# Altium footprint library Connector_PinSocket_1.00mm.PcbLib: 156 footprints (part 5 of 10)
Each footprint in its own frame and in the unit in brackets; x right, y up, seen from the top. Pads: shape width x height; smd on the part's side, far side on the other; paste and mask are expansions set on the pad; w line width, h text height; cw(c..) or ccw(c..) is an arc to the next point about the centre after c.
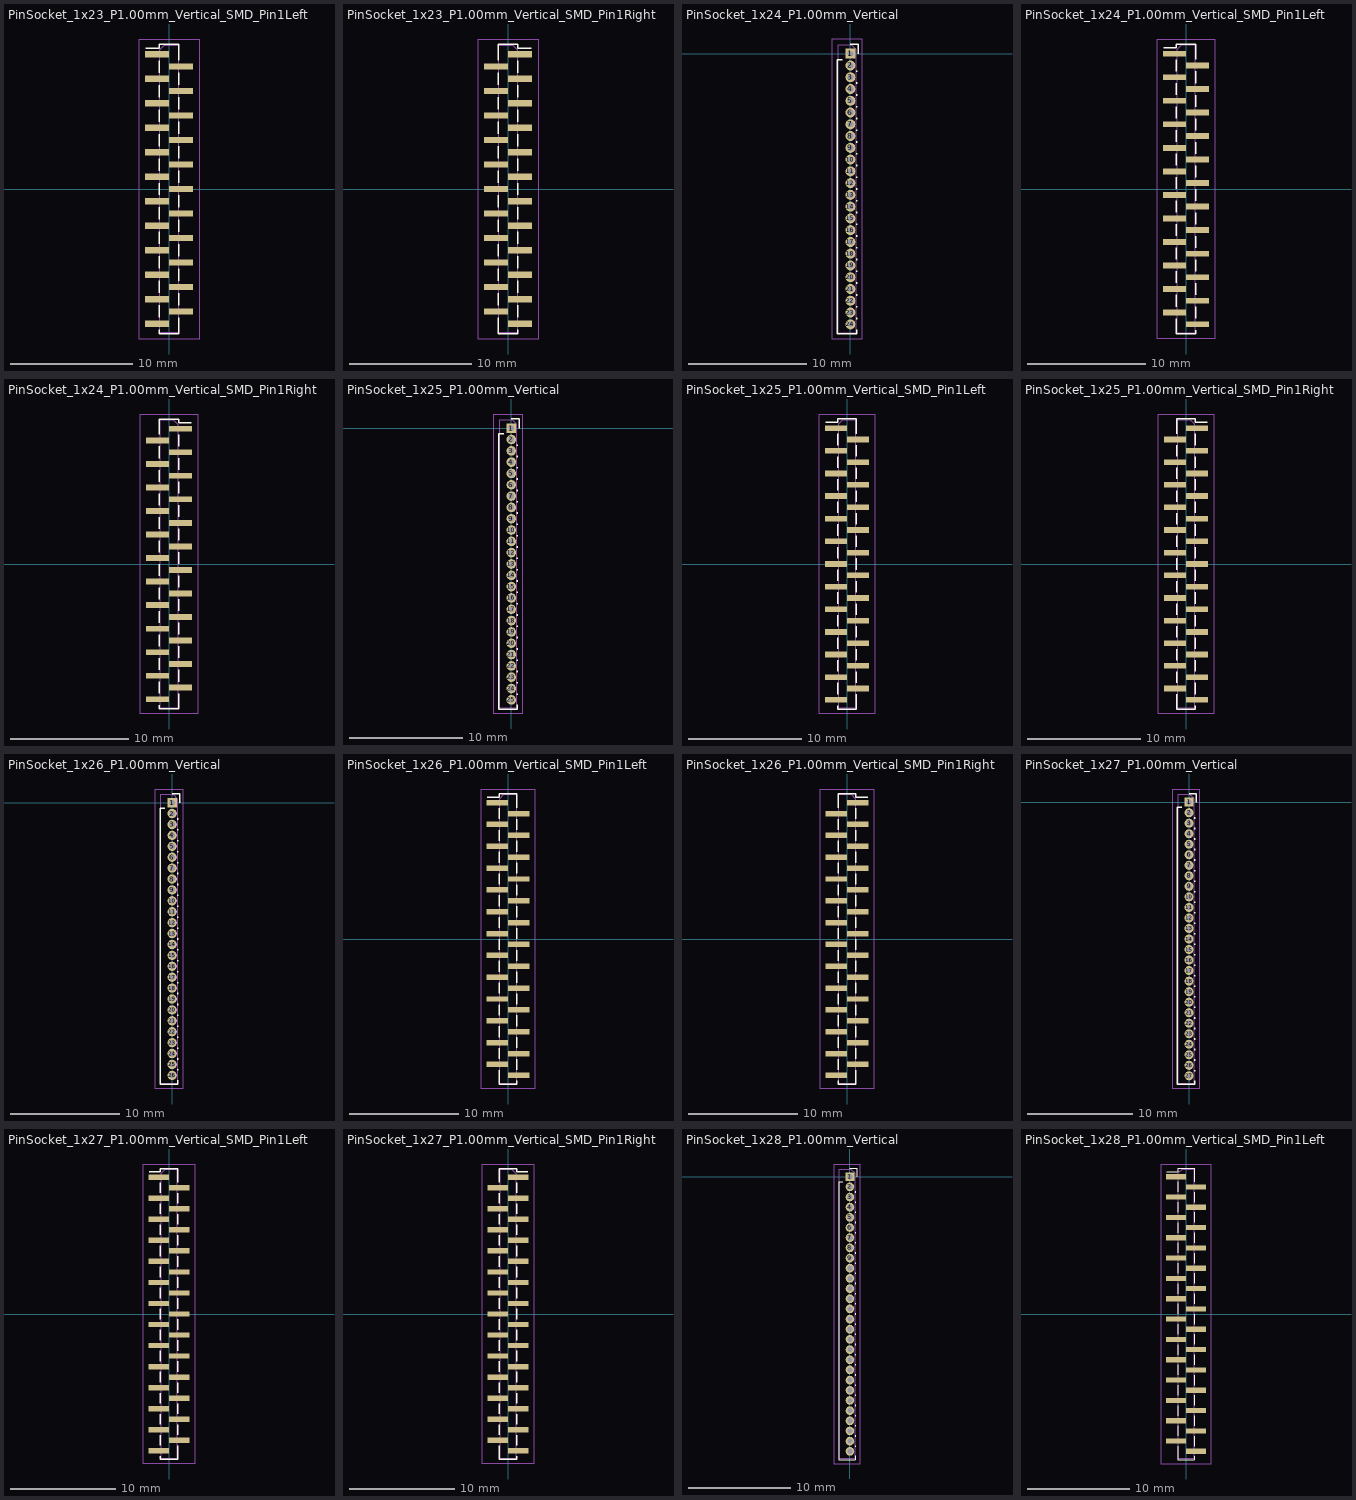
[diagram p4: the footprints below, top view; thin cyan lines are the x and y axes]

## PinSocket_1x23_P1.00mm_Vertical_SMD_Pin1Left [mm]
pads (23):
  rect 1.95x0.5 smd: 1(-0.975,11) 2(0.975,10) 3(-0.975,9) 4(0.975,8) 5(-0.975,7) 6(0.975,6) 7(-0.975,5) 8(0.975,4) 9(-0.975,3) 10(0.975,2) 11(-0.975,1) 12(0.975,0) 13(-0.975,-1) 14(0.975,-2) 15(-0.975,-3) 16(0.975,-4) 17(-0.975,-5) 18(0.975,-6) 19(-0.975,-7) 20(0.975,-8) 21(-0.975,-9) 22(0.975,-10) 23(-0.975,-11)
F.SilkS:
  lines w0.12: -1.89,11.51 -0.81,11.51 -0.81,11.81 0.81,11.81 0.81,10.51 ; -0.81,-11.51 -0.81,-11.81 0.81,-11.81 0.81,-10.51 ; -0.81,-10.49 -0.81,-9.51 ; -0.81,-8.49 -0.81,-7.51 ; -0.81,-6.49 -0.81,-5.51 ; -0.81,-4.49 -0.81,-3.51 ; -0.81,-2.49 -0.81,-1.51 ; -0.81,-0.49 -0.81,0.49 ; -0.81,1.51 -0.81,2.49 ; -0.81,3.51 -0.81,4.49 ; -0.81,5.51 -0.81,6.49 ; -0.81,7.51 -0.81,8.49 ; -0.81,9.51 -0.81,10.49 ; 0.81,-9.49 0.81,-8.51 ; 0.81,-7.49 0.81,-6.51 ; 0.81,-5.49 0.81,-4.51 ; 0.81,-3.49 0.81,-2.51 ; 0.81,-1.49 0.81,-0.51 ; 0.81,0.51 0.81,1.49 ; 0.81,2.51 0.81,3.49 ; 0.81,4.51 0.81,5.49 ; 0.81,6.51 0.81,7.49 ; 0.81,8.51 0.81,9.49
F.CrtYd:
  lines w0.05: -2.45,-12.25 2.45,-12.25 2.45,12.25 -2.45,12.25 -2.45,-12.25
F.Fab:
  lines w0.1: -0.75,-11.15 -1.45,-11.15 -1.45,-10.85 -0.75,-10.85 ; -0.75,-9.15 -1.45,-9.15 -1.45,-8.85 -0.75,-8.85 ; -0.75,-7.15 -1.45,-7.15 -1.45,-6.85 -0.75,-6.85 ; -0.75,-5.15 -1.45,-5.15 -1.45,-4.85 -0.75,-4.85 ; -0.75,-3.15 -1.45,-3.15 -1.45,-2.85 -0.75,-2.85 ; -0.75,-1.15 -1.45,-1.15 -1.45,-0.85 -0.75,-0.85 ; -0.75,0.85 -1.45,0.85 -1.45,1.15 -0.75,1.15 ; -0.75,2.85 -1.45,2.85 -1.45,3.15 -0.75,3.15 ; -0.75,4.85 -1.45,4.85 -1.45,5.15 -0.75,5.15 ; -0.75,6.85 -1.45,6.85 -1.45,7.15 -0.75,7.15 ; -0.75,8.85 -1.45,8.85 -1.45,9.15 -0.75,9.15 ; -0.75,10.85 -1.45,10.85 -1.45,11.15 -0.75,11.15 ; 0.75,-10.15 1.45,-10.15 1.45,-9.85 0.75,-9.85 ; 0.75,-8.15 1.45,-8.15 1.45,-7.85 0.75,-7.85 ; 0.75,-6.15 1.45,-6.15 1.45,-5.85 0.75,-5.85 ; 0.75,-4.15 1.45,-4.15 1.45,-3.85 0.75,-3.85 ; 0.75,-2.15 1.45,-2.15 1.45,-1.85 0.75,-1.85 ; 0.75,-0.15 1.45,-0.15 1.45,0.15 0.75,0.15 ; 0.75,1.85 1.45,1.85 1.45,2.15 0.75,2.15 ; 0.75,3.85 1.45,3.85 1.45,4.15 0.75,4.15 ; 0.75,5.85 1.45,5.85 1.45,6.15 0.75,6.15 ; 0.75,7.85 1.45,7.85 1.45,8.15 0.75,8.15 ; 0.75,9.85 1.45,9.85 1.45,10.15 0.75,10.15 ; -0.75,-11.75 0.75,-11.75 0.75,11.75 -0.375,11.75 -0.75,11.375 -0.75,-11.75
  text "'.Designator'" at 0.761,-3.647 h0.9

## PinSocket_1x23_P1.00mm_Vertical_SMD_Pin1Right [mm]
pads (23):
  rect 1.95x0.5 smd: 1(0.975,11) 2(-0.975,10) 3(0.975,9) 4(-0.975,8) 5(0.975,7) 6(-0.975,6) 7(0.975,5) 8(-0.975,4) 9(0.975,3) 10(-0.975,2) 11(0.975,1) 12(-0.975,0) 13(0.975,-1) 14(-0.975,-2) 15(0.975,-3) 16(-0.975,-4) 17(0.975,-5) 18(-0.975,-6) 19(0.975,-7) 20(-0.975,-8) 21(0.975,-9) 22(-0.975,-10) 23(0.975,-11)
F.SilkS:
  lines w0.12: -0.81,-10.51 -0.81,-11.81 0.81,-11.81 0.81,-11.51 ; -0.81,-9.49 -0.81,-8.51 ; -0.81,-7.49 -0.81,-6.51 ; -0.81,-5.49 -0.81,-4.51 ; -0.81,-3.49 -0.81,-2.51 ; -0.81,-1.49 -0.81,-0.51 ; -0.81,0.51 -0.81,1.49 ; -0.81,2.51 -0.81,3.49 ; -0.81,4.51 -0.81,5.49 ; -0.81,6.51 -0.81,7.49 ; -0.81,8.51 -0.81,9.49 ; -0.81,10.51 -0.81,11.81 0.81,11.81 0.81,11.51 1.89,11.51 ; 0.81,-10.49 0.81,-9.51 ; 0.81,-8.49 0.81,-7.51 ; 0.81,-6.49 0.81,-5.51 ; 0.81,-4.49 0.81,-3.51 ; 0.81,-2.49 0.81,-1.51 ; 0.81,-0.49 0.81,0.49 ; 0.81,1.51 0.81,2.49 ; 0.81,3.51 0.81,4.49 ; 0.81,5.51 0.81,6.49 ; 0.81,7.51 0.81,8.49 ; 0.81,9.51 0.81,10.49
F.CrtYd:
  lines w0.05: -2.45,-12.25 -2.45,12.25 2.45,12.25 2.45,-12.25 -2.45,-12.25
F.Fab:
  lines w0.1: -0.75,-10.15 -1.45,-10.15 -1.45,-9.85 -0.75,-9.85 ; -0.75,-8.15 -1.45,-8.15 -1.45,-7.85 -0.75,-7.85 ; -0.75,-6.15 -1.45,-6.15 -1.45,-5.85 -0.75,-5.85 ; -0.75,-4.15 -1.45,-4.15 -1.45,-3.85 -0.75,-3.85 ; -0.75,-2.15 -1.45,-2.15 -1.45,-1.85 -0.75,-1.85 ; -0.75,-0.15 -1.45,-0.15 -1.45,0.15 -0.75,0.15 ; -0.75,1.85 -1.45,1.85 -1.45,2.15 -0.75,2.15 ; -0.75,3.85 -1.45,3.85 -1.45,4.15 -0.75,4.15 ; -0.75,5.85 -1.45,5.85 -1.45,6.15 -0.75,6.15 ; -0.75,7.85 -1.45,7.85 -1.45,8.15 -0.75,8.15 ; -0.75,9.85 -1.45,9.85 -1.45,10.15 -0.75,10.15 ; 0.75,-11.15 1.45,-11.15 1.45,-10.85 0.75,-10.85 ; 0.75,-9.15 1.45,-9.15 1.45,-8.85 0.75,-8.85 ; 0.75,-7.15 1.45,-7.15 1.45,-6.85 0.75,-6.85 ; 0.75,-5.15 1.45,-5.15 1.45,-4.85 0.75,-4.85 ; 0.75,-3.15 1.45,-3.15 1.45,-2.85 0.75,-2.85 ; 0.75,-1.15 1.45,-1.15 1.45,-0.85 0.75,-0.85 ; 0.75,0.85 1.45,0.85 1.45,1.15 0.75,1.15 ; 0.75,2.85 1.45,2.85 1.45,3.15 0.75,3.15 ; 0.75,4.85 1.45,4.85 1.45,5.15 0.75,5.15 ; 0.75,6.85 1.45,6.85 1.45,7.15 0.75,7.15 ; 0.75,8.85 1.45,8.85 1.45,9.15 0.75,9.15 ; 0.75,10.85 1.45,10.85 1.45,11.15 0.75,11.15 ; -0.75,-11.75 -0.75,11.75 0.375,11.75 0.75,11.375 0.75,-11.75 -0.75,-11.75
  text "'.Designator'" at 0.761,-3.647 h0.9

## PinSocket_1x24_P1.00mm_Vertical [mm]
pads (24):
  rect 0.85x0.85 hole 0.5: 1(0,0)
  rrect100% 0.85x0.85 hole 0.5: 2(0,-1) 3(0,-2) 4(0,-3) 5(0,-4) 6(0,-5) 7(0,-6) 8(0,-7) 9(0,-8) 10(0,-9) 11(0,-10) 12(0,-11) 13(0,-12) 14(0,-13) 15(0,-14) 16(0,-15) 17(0,-16) 18(0,-17) 19(0,-18) 20(0,-19) 21(0,-20) 22(0,-21) 23(0,-22) 24(0,-23)
F.SilkS:
  lines w0.12: -0.685,-0.5 -1.1,-0.5 -1.1,-23.81 0.52,-23.81 0.52,-23.446 ; 0,0.81 0.685,0.81 0.685,0 ; 0.52,-22.554 0.52,-22.446 ; 0.52,-21.554 0.52,-21.446 ; 0.52,-20.554 0.52,-20.446 ; 0.52,-19.554 0.52,-19.446 ; 0.52,-18.554 0.52,-18.446 ; 0.52,-17.554 0.52,-17.446 ; 0.52,-16.554 0.52,-16.446 ; 0.52,-15.554 0.52,-15.446 ; 0.52,-14.554 0.52,-14.446 ; 0.52,-13.554 0.52,-13.446 ; 0.52,-12.554 0.52,-12.446 ; 0.52,-11.554 0.52,-11.446 ; 0.52,-10.554 0.52,-10.446 ; 0.52,-9.554 0.52,-9.446 ; 0.52,-8.554 0.52,-8.446 ; 0.52,-7.554 0.52,-7.446 ; 0.52,-6.554 0.52,-6.446 ; 0.52,-5.554 0.52,-5.446 ; 0.52,-4.554 0.52,-4.446 ; 0.52,-3.554 0.52,-3.446 ; 0.52,-2.554 0.52,-2.446 ; 0.52,-1.554 0.52,-1.446
F.CrtYd:
  lines w0.05: -1.54,-24.25 0.96,-24.25 0.96,1.25 -1.54,1.25 -1.54,-24.25
F.Fab:
  lines w0.1: -1.04,-23.75 -1.04,0.75 0.085,0.75 0.46,0.375 0.46,-23.75 -1.04,-23.75
  text "'.Designator'" at 0.471,-15.147 h0.9

## PinSocket_1x24_P1.00mm_Vertical_SMD_Pin1Left [mm]
pads (24):
  rect 1.95x0.5 smd: 1(-0.975,11.5) 2(0.975,10.5) 3(-0.975,9.5) 4(0.975,8.5) 5(-0.975,7.5) 6(0.975,6.5) 7(-0.975,5.5) 8(0.975,4.5) 9(-0.975,3.5) 10(0.975,2.5) 11(-0.975,1.5) 12(0.975,0.5) 13(-0.975,-0.5) 14(0.975,-1.5) 15(-0.975,-2.5) 16(0.975,-3.5) 17(-0.975,-4.5) 18(0.975,-5.5) 19(-0.975,-6.5) 20(0.975,-7.5) 21(-0.975,-8.5) 22(0.975,-9.5) 23(-0.975,-10.5) 24(0.975,-11.5)
F.SilkS:
  lines w0.12: -1.89,12.01 -0.81,12.01 -0.81,12.31 0.81,12.31 0.81,11.01 ; -0.81,-11.01 -0.81,-12.31 0.81,-12.31 0.81,-12.01 ; -0.81,-9.99 -0.81,-9.01 ; -0.81,-7.99 -0.81,-7.01 ; -0.81,-5.99 -0.81,-5.01 ; -0.81,-3.99 -0.81,-3.01 ; -0.81,-1.99 -0.81,-1.01 ; -0.81,0.01 -0.81,0.99 ; -0.81,2.01 -0.81,2.99 ; -0.81,4.01 -0.81,4.99 ; -0.81,6.01 -0.81,6.99 ; -0.81,8.01 -0.81,8.99 ; -0.81,10.01 -0.81,10.99 ; 0.81,-10.99 0.81,-10.01 ; 0.81,-8.99 0.81,-8.01 ; 0.81,-6.99 0.81,-6.01 ; 0.81,-4.99 0.81,-4.01 ; 0.81,-2.99 0.81,-2.01 ; 0.81,-0.99 0.81,-0.01 ; 0.81,1.01 0.81,1.99 ; 0.81,3.01 0.81,3.99 ; 0.81,5.01 0.81,5.99 ; 0.81,7.01 0.81,7.99 ; 0.81,9.01 0.81,9.99
F.CrtYd:
  lines w0.05: -2.45,-12.75 2.45,-12.75 2.45,12.75 -2.45,12.75 -2.45,-12.75
F.Fab:
  lines w0.1: -0.75,-10.65 -1.45,-10.65 -1.45,-10.35 -0.75,-10.35 ; -0.75,-8.65 -1.45,-8.65 -1.45,-8.35 -0.75,-8.35 ; -0.75,-6.65 -1.45,-6.65 -1.45,-6.35 -0.75,-6.35 ; -0.75,-4.65 -1.45,-4.65 -1.45,-4.35 -0.75,-4.35 ; -0.75,-2.65 -1.45,-2.65 -1.45,-2.35 -0.75,-2.35 ; -0.75,-0.65 -1.45,-0.65 -1.45,-0.35 -0.75,-0.35 ; -0.75,1.35 -1.45,1.35 -1.45,1.65 -0.75,1.65 ; -0.75,3.35 -1.45,3.35 -1.45,3.65 -0.75,3.65 ; -0.75,5.35 -1.45,5.35 -1.45,5.65 -0.75,5.65 ; -0.75,7.35 -1.45,7.35 -1.45,7.65 -0.75,7.65 ; -0.75,9.35 -1.45,9.35 -1.45,9.65 -0.75,9.65 ; -0.75,11.35 -1.45,11.35 -1.45,11.65 -0.75,11.65 ; 0.75,-11.65 1.45,-11.65 1.45,-11.35 0.75,-11.35 ; 0.75,-9.65 1.45,-9.65 1.45,-9.35 0.75,-9.35 ; 0.75,-7.65 1.45,-7.65 1.45,-7.35 0.75,-7.35 ; 0.75,-5.65 1.45,-5.65 1.45,-5.35 0.75,-5.35 ; 0.75,-3.65 1.45,-3.65 1.45,-3.35 0.75,-3.35 ; 0.75,-1.65 1.45,-1.65 1.45,-1.35 0.75,-1.35 ; 0.75,0.35 1.45,0.35 1.45,0.65 0.75,0.65 ; 0.75,2.35 1.45,2.35 1.45,2.65 0.75,2.65 ; 0.75,4.35 1.45,4.35 1.45,4.65 0.75,4.65 ; 0.75,6.35 1.45,6.35 1.45,6.65 0.75,6.65 ; 0.75,8.35 1.45,8.35 1.45,8.65 0.75,8.65 ; 0.75,10.35 1.45,10.35 1.45,10.65 0.75,10.65 ; -0.75,-12.25 -0.75,11.875 -0.375,12.25 0.75,12.25 0.75,-12.25 -0.75,-12.25
  text "'.Designator'" at 0.761,-3.647 h0.9

## PinSocket_1x24_P1.00mm_Vertical_SMD_Pin1Right [mm]
pads (24):
  rect 1.95x0.5 smd: 1(0.975,11.5) 2(-0.975,10.5) 3(0.975,9.5) 4(-0.975,8.5) 5(0.975,7.5) 6(-0.975,6.5) 7(0.975,5.5) 8(-0.975,4.5) 9(0.975,3.5) 10(-0.975,2.5) 11(0.975,1.5) 12(-0.975,0.5) 13(0.975,-0.5) 14(-0.975,-1.5) 15(0.975,-2.5) 16(-0.975,-3.5) 17(0.975,-4.5) 18(-0.975,-5.5) 19(0.975,-6.5) 20(-0.975,-7.5) 21(0.975,-8.5) 22(-0.975,-9.5) 23(0.975,-10.5) 24(-0.975,-11.5)
F.SilkS:
  lines w0.12: -0.81,-12.01 -0.81,-12.31 0.81,-12.31 0.81,-11.01 ; -0.81,-10.99 -0.81,-10.01 ; -0.81,-8.99 -0.81,-8.01 ; -0.81,-6.99 -0.81,-6.01 ; -0.81,-4.99 -0.81,-4.01 ; -0.81,-2.99 -0.81,-2.01 ; -0.81,-0.99 -0.81,-0.01 ; -0.81,1.01 -0.81,1.99 ; -0.81,3.01 -0.81,3.99 ; -0.81,5.01 -0.81,5.99 ; -0.81,7.01 -0.81,7.99 ; -0.81,9.01 -0.81,9.99 ; -0.81,11.01 -0.81,12.31 0.81,12.31 0.81,12.01 1.89,12.01 ; 0.81,-9.99 0.81,-9.01 ; 0.81,-7.99 0.81,-7.01 ; 0.81,-5.99 0.81,-5.01 ; 0.81,-3.99 0.81,-3.01 ; 0.81,-1.99 0.81,-1.01 ; 0.81,0.01 0.81,0.99 ; 0.81,2.01 0.81,2.99 ; 0.81,4.01 0.81,4.99 ; 0.81,6.01 0.81,6.99 ; 0.81,8.01 0.81,8.99 ; 0.81,10.01 0.81,10.99
F.CrtYd:
  lines w0.05: -2.45,-12.75 2.45,-12.75 2.45,12.75 -2.45,12.75 -2.45,-12.75
F.Fab:
  lines w0.1: -0.75,-11.65 -1.45,-11.65 -1.45,-11.35 -0.75,-11.35 ; -0.75,-9.65 -1.45,-9.65 -1.45,-9.35 -0.75,-9.35 ; -0.75,-7.65 -1.45,-7.65 -1.45,-7.35 -0.75,-7.35 ; -0.75,-5.65 -1.45,-5.65 -1.45,-5.35 -0.75,-5.35 ; -0.75,-3.65 -1.45,-3.65 -1.45,-3.35 -0.75,-3.35 ; -0.75,-1.65 -1.45,-1.65 -1.45,-1.35 -0.75,-1.35 ; -0.75,0.35 -1.45,0.35 -1.45,0.65 -0.75,0.65 ; -0.75,2.35 -1.45,2.35 -1.45,2.65 -0.75,2.65 ; -0.75,4.35 -1.45,4.35 -1.45,4.65 -0.75,4.65 ; -0.75,6.35 -1.45,6.35 -1.45,6.65 -0.75,6.65 ; -0.75,8.35 -1.45,8.35 -1.45,8.65 -0.75,8.65 ; -0.75,10.35 -1.45,10.35 -1.45,10.65 -0.75,10.65 ; 0.75,-10.65 1.45,-10.65 1.45,-10.35 0.75,-10.35 ; 0.75,-8.65 1.45,-8.65 1.45,-8.35 0.75,-8.35 ; 0.75,-6.65 1.45,-6.65 1.45,-6.35 0.75,-6.35 ; 0.75,-4.65 1.45,-4.65 1.45,-4.35 0.75,-4.35 ; 0.75,-2.65 1.45,-2.65 1.45,-2.35 0.75,-2.35 ; 0.75,-0.65 1.45,-0.65 1.45,-0.35 0.75,-0.35 ; 0.75,1.35 1.45,1.35 1.45,1.65 0.75,1.65 ; 0.75,3.35 1.45,3.35 1.45,3.65 0.75,3.65 ; 0.75,5.35 1.45,5.35 1.45,5.65 0.75,5.65 ; 0.75,7.35 1.45,7.35 1.45,7.65 0.75,7.65 ; 0.75,9.35 1.45,9.35 1.45,9.65 0.75,9.65 ; 0.75,11.35 1.45,11.35 1.45,11.65 0.75,11.65 ; -0.75,-12.25 -0.75,12.25 0.375,12.25 0.75,11.875 0.75,-12.25 -0.75,-12.25
  text "'.Designator'" at 0.761,-3.647 h0.9

## PinSocket_1x25_P1.00mm_Vertical [mm]
pads (25):
  rect 0.85x0.85 hole 0.5: 1(0,0)
  rrect100% 0.85x0.85 hole 0.5: 2(0,-1) 3(0,-2) 4(0,-3) 5(0,-4) 6(0,-5) 7(0,-6) 8(0,-7) 9(0,-8) 10(0,-9) 11(0,-10) 12(0,-11) 13(0,-12) 14(0,-13) 15(0,-14) 16(0,-15) 17(0,-16) 18(0,-17) 19(0,-18) 20(0,-19) 21(0,-20) 22(0,-21) 23(0,-22) 24(0,-23) 25(0,-24)
F.SilkS:
  lines w0.12: -0.685,-0.5 -1.1,-0.5 -1.1,-24.81 0.52,-24.81 0.52,-24.446 ; 0,0.81 0.685,0.81 0.685,0 ; 0.52,-23.554 0.52,-23.446 ; 0.52,-22.554 0.52,-22.446 ; 0.52,-21.554 0.52,-21.446 ; 0.52,-20.554 0.52,-20.446 ; 0.52,-19.554 0.52,-19.446 ; 0.52,-18.554 0.52,-18.446 ; 0.52,-17.554 0.52,-17.446 ; 0.52,-16.554 0.52,-16.446 ; 0.52,-15.554 0.52,-15.446 ; 0.52,-14.554 0.52,-14.446 ; 0.52,-13.554 0.52,-13.446 ; 0.52,-12.554 0.52,-12.446 ; 0.52,-11.554 0.52,-11.446 ; 0.52,-10.554 0.52,-10.446 ; 0.52,-9.554 0.52,-9.446 ; 0.52,-8.554 0.52,-8.446 ; 0.52,-7.554 0.52,-7.446 ; 0.52,-6.554 0.52,-6.446 ; 0.52,-5.554 0.52,-5.446 ; 0.52,-4.554 0.52,-4.446 ; 0.52,-3.554 0.52,-3.446 ; 0.52,-2.554 0.52,-2.446 ; 0.52,-1.554 0.52,-1.446
F.CrtYd:
  lines w0.05: -1.54,-25.25 0.96,-25.25 0.96,1.25 -1.54,1.25 -1.54,-25.25
F.Fab:
  lines w0.1: -1.04,-24.75 -1.04,0.75 0.085,0.75 0.46,0.375 0.46,-24.75 -1.04,-24.75
  text "'.Designator'" at 0.471,-15.647 h0.9

## PinSocket_1x25_P1.00mm_Vertical_SMD_Pin1Left [mm]
pads (25):
  rect 1.95x0.5 smd: 1(-0.975,12) 2(0.975,11) 3(-0.975,10) 4(0.975,9) 5(-0.975,8) 6(0.975,7) 7(-0.975,6) 8(0.975,5) 9(-0.975,4) 10(0.975,3) 11(-0.975,2) 12(0.975,1) 13(-0.975,0) 14(0.975,-1) 15(-0.975,-2) 16(0.975,-3) 17(-0.975,-4) 18(0.975,-5) 19(-0.975,-6) 20(0.975,-7) 21(-0.975,-8) 22(0.975,-9) 23(-0.975,-10) 24(0.975,-11) 25(-0.975,-12)
F.SilkS:
  lines w0.12: -1.89,12.51 -0.81,12.51 -0.81,12.81 0.81,12.81 0.81,11.51 ; -0.81,-12.51 -0.81,-12.81 0.81,-12.81 0.81,-11.51 ; -0.81,-11.49 -0.81,-10.51 ; -0.81,-9.49 -0.81,-8.51 ; -0.81,-7.49 -0.81,-6.51 ; -0.81,-5.49 -0.81,-4.51 ; -0.81,-3.49 -0.81,-2.51 ; -0.81,-1.49 -0.81,-0.51 ; -0.81,0.51 -0.81,1.49 ; -0.81,2.51 -0.81,3.49 ; -0.81,4.51 -0.81,5.49 ; -0.81,6.51 -0.81,7.49 ; -0.81,8.51 -0.81,9.49 ; -0.81,10.51 -0.81,11.49 ; 0.81,-10.49 0.81,-9.51 ; 0.81,-8.49 0.81,-7.51 ; 0.81,-6.49 0.81,-5.51 ; 0.81,-4.49 0.81,-3.51 ; 0.81,-2.49 0.81,-1.51 ; 0.81,-0.49 0.81,0.49 ; 0.81,1.51 0.81,2.49 ; 0.81,3.51 0.81,4.49 ; 0.81,5.51 0.81,6.49 ; 0.81,7.51 0.81,8.49 ; 0.81,9.51 0.81,10.49
F.CrtYd:
  lines w0.05: -2.45,-13.25 -2.45,13.25 2.45,13.25 2.45,-13.25 -2.45,-13.25
F.Fab:
  lines w0.1: -0.75,-12.15 -1.45,-12.15 -1.45,-11.85 -0.75,-11.85 ; -0.75,-10.15 -1.45,-10.15 -1.45,-9.85 -0.75,-9.85 ; -0.75,-8.15 -1.45,-8.15 -1.45,-7.85 -0.75,-7.85 ; -0.75,-6.15 -1.45,-6.15 -1.45,-5.85 -0.75,-5.85 ; -0.75,-4.15 -1.45,-4.15 -1.45,-3.85 -0.75,-3.85 ; -0.75,-2.15 -1.45,-2.15 -1.45,-1.85 -0.75,-1.85 ; -0.75,-0.15 -1.45,-0.15 -1.45,0.15 -0.75,0.15 ; -0.75,1.85 -1.45,1.85 -1.45,2.15 -0.75,2.15 ; -0.75,3.85 -1.45,3.85 -1.45,4.15 -0.75,4.15 ; -0.75,5.85 -1.45,5.85 -1.45,6.15 -0.75,6.15 ; -0.75,7.85 -1.45,7.85 -1.45,8.15 -0.75,8.15 ; -0.75,9.85 -1.45,9.85 -1.45,10.15 -0.75,10.15 ; -0.75,11.85 -1.45,11.85 -1.45,12.15 -0.75,12.15 ; 0.75,-11.15 1.45,-11.15 1.45,-10.85 0.75,-10.85 ; 0.75,-9.15 1.45,-9.15 1.45,-8.85 0.75,-8.85 ; 0.75,-7.15 1.45,-7.15 1.45,-6.85 0.75,-6.85 ; 0.75,-5.15 1.45,-5.15 1.45,-4.85 0.75,-4.85 ; 0.75,-3.15 1.45,-3.15 1.45,-2.85 0.75,-2.85 ; 0.75,-1.15 1.45,-1.15 1.45,-0.85 0.75,-0.85 ; 0.75,0.85 1.45,0.85 1.45,1.15 0.75,1.15 ; 0.75,2.85 1.45,2.85 1.45,3.15 0.75,3.15 ; 0.75,4.85 1.45,4.85 1.45,5.15 0.75,5.15 ; 0.75,6.85 1.45,6.85 1.45,7.15 0.75,7.15 ; 0.75,8.85 1.45,8.85 1.45,9.15 0.75,9.15 ; 0.75,10.85 1.45,10.85 1.45,11.15 0.75,11.15 ; -0.75,-12.75 0.75,-12.75 0.75,12.75 -0.375,12.75 -0.75,12.375 -0.75,-12.75
  text "'.Designator'" at 0.761,-3.647 h0.9

## PinSocket_1x25_P1.00mm_Vertical_SMD_Pin1Right [mm]
pads (25):
  rect 1.95x0.5 smd: 1(0.975,12) 2(-0.975,11) 3(0.975,10) 4(-0.975,9) 5(0.975,8) 6(-0.975,7) 7(0.975,6) 8(-0.975,5) 9(0.975,4) 10(-0.975,3) 11(0.975,2) 12(-0.975,1) 13(0.975,0) 14(-0.975,-1) 15(0.975,-2) 16(-0.975,-3) 17(0.975,-4) 18(-0.975,-5) 19(0.975,-6) 20(-0.975,-7) 21(0.975,-8) 22(-0.975,-9) 23(0.975,-10) 24(-0.975,-11) 25(0.975,-12)
F.SilkS:
  lines w0.12: -0.81,-11.51 -0.81,-12.81 0.81,-12.81 0.81,-12.51 ; -0.81,-10.49 -0.81,-9.51 ; -0.81,-8.49 -0.81,-7.51 ; -0.81,-6.49 -0.81,-5.51 ; -0.81,-4.49 -0.81,-3.51 ; -0.81,-2.49 -0.81,-1.51 ; -0.81,-0.49 -0.81,0.49 ; -0.81,1.51 -0.81,2.49 ; -0.81,3.51 -0.81,4.49 ; -0.81,5.51 -0.81,6.49 ; -0.81,7.51 -0.81,8.49 ; -0.81,9.51 -0.81,10.49 ; -0.81,11.51 -0.81,12.81 0.81,12.81 0.81,12.51 1.89,12.51 ; 0.81,-11.49 0.81,-10.51 ; 0.81,-9.49 0.81,-8.51 ; 0.81,-7.49 0.81,-6.51 ; 0.81,-5.49 0.81,-4.51 ; 0.81,-3.49 0.81,-2.51 ; 0.81,-1.49 0.81,-0.51 ; 0.81,0.51 0.81,1.49 ; 0.81,2.51 0.81,3.49 ; 0.81,4.51 0.81,5.49 ; 0.81,6.51 0.81,7.49 ; 0.81,8.51 0.81,9.49 ; 0.81,10.51 0.81,11.49
F.CrtYd:
  lines w0.05: -2.45,-13.25 -2.45,13.25 2.45,13.25 2.45,-13.25 -2.45,-13.25
F.Fab:
  lines w0.1: -0.75,-11.15 -1.45,-11.15 -1.45,-10.85 -0.75,-10.85 ; -0.75,-9.15 -1.45,-9.15 -1.45,-8.85 -0.75,-8.85 ; -0.75,-7.15 -1.45,-7.15 -1.45,-6.85 -0.75,-6.85 ; -0.75,-5.15 -1.45,-5.15 -1.45,-4.85 -0.75,-4.85 ; -0.75,-3.15 -1.45,-3.15 -1.45,-2.85 -0.75,-2.85 ; -0.75,-1.15 -1.45,-1.15 -1.45,-0.85 -0.75,-0.85 ; -0.75,0.85 -1.45,0.85 -1.45,1.15 -0.75,1.15 ; -0.75,2.85 -1.45,2.85 -1.45,3.15 -0.75,3.15 ; -0.75,4.85 -1.45,4.85 -1.45,5.15 -0.75,5.15 ; -0.75,6.85 -1.45,6.85 -1.45,7.15 -0.75,7.15 ; -0.75,8.85 -1.45,8.85 -1.45,9.15 -0.75,9.15 ; -0.75,10.85 -1.45,10.85 -1.45,11.15 -0.75,11.15 ; 0.75,-12.15 1.45,-12.15 1.45,-11.85 0.75,-11.85 ; 0.75,-10.15 1.45,-10.15 1.45,-9.85 0.75,-9.85 ; 0.75,-8.15 1.45,-8.15 1.45,-7.85 0.75,-7.85 ; 0.75,-6.15 1.45,-6.15 1.45,-5.85 0.75,-5.85 ; 0.75,-4.15 1.45,-4.15 1.45,-3.85 0.75,-3.85 ; 0.75,-2.15 1.45,-2.15 1.45,-1.85 0.75,-1.85 ; 0.75,-0.15 1.45,-0.15 1.45,0.15 0.75,0.15 ; 0.75,1.85 1.45,1.85 1.45,2.15 0.75,2.15 ; 0.75,3.85 1.45,3.85 1.45,4.15 0.75,4.15 ; 0.75,5.85 1.45,5.85 1.45,6.15 0.75,6.15 ; 0.75,7.85 1.45,7.85 1.45,8.15 0.75,8.15 ; 0.75,9.85 1.45,9.85 1.45,10.15 0.75,10.15 ; 0.75,11.85 1.45,11.85 1.45,12.15 0.75,12.15 ; -0.75,-12.75 0.75,-12.75 0.75,12.375 0.375,12.75 -0.75,12.75 -0.75,-12.75
  text "'.Designator'" at 0.761,-3.647 h0.9

## PinSocket_1x26_P1.00mm_Vertical [mm]
pads (26):
  rect 0.85x0.85 hole 0.5: 1(0,0)
  rrect100% 0.85x0.85 hole 0.5: 2(0,-1) 3(0,-2) 4(0,-3) 5(0,-4) 6(0,-5) 7(0,-6) 8(0,-7) 9(0,-8) 10(0,-9) 11(0,-10) 12(0,-11) 13(0,-12) 14(0,-13) 15(0,-14) 16(0,-15) 17(0,-16) 18(0,-17) 19(0,-18) 20(0,-19) 21(0,-20) 22(0,-21) 23(0,-22) 24(0,-23) 25(0,-24) 26(0,-25)
F.SilkS:
  lines w0.12: -0.685,-0.5 -1.1,-0.5 -1.1,-25.81 0.52,-25.81 0.52,-25.446 ; 0,0.81 0.685,0.81 0.685,0 ; 0.52,-24.554 0.52,-24.446 ; 0.52,-23.554 0.52,-23.446 ; 0.52,-22.554 0.52,-22.446 ; 0.52,-21.554 0.52,-21.446 ; 0.52,-20.554 0.52,-20.446 ; 0.52,-19.554 0.52,-19.446 ; 0.52,-18.554 0.52,-18.446 ; 0.52,-17.554 0.52,-17.446 ; 0.52,-16.554 0.52,-16.446 ; 0.52,-15.554 0.52,-15.446 ; 0.52,-14.554 0.52,-14.446 ; 0.52,-13.554 0.52,-13.446 ; 0.52,-12.554 0.52,-12.446 ; 0.52,-11.554 0.52,-11.446 ; 0.52,-10.554 0.52,-10.446 ; 0.52,-9.554 0.52,-9.446 ; 0.52,-8.554 0.52,-8.446 ; 0.52,-7.554 0.52,-7.446 ; 0.52,-6.554 0.52,-6.446 ; 0.52,-5.554 0.52,-5.446 ; 0.52,-4.554 0.52,-4.446 ; 0.52,-3.554 0.52,-3.446 ; 0.52,-2.554 0.52,-2.446 ; 0.52,-1.554 0.52,-1.446
F.CrtYd:
  lines w0.05: -1.54,-26.25 0.96,-26.25 0.96,1.25 -1.54,1.25 -1.54,-26.25
F.Fab:
  lines w0.1: -1.04,-25.75 -1.04,0.75 0.085,0.75 0.46,0.375 0.46,-25.75 -1.04,-25.75
  text "'.Designator'" at 0.471,-16.147 h0.9

## PinSocket_1x26_P1.00mm_Vertical_SMD_Pin1Left [mm]
pads (26):
  rect 1.95x0.5 smd: 1(-0.975,12.5) 2(0.975,11.5) 3(-0.975,10.5) 4(0.975,9.5) 5(-0.975,8.5) 6(0.975,7.5) 7(-0.975,6.5) 8(0.975,5.5) 9(-0.975,4.5) 10(0.975,3.5) 11(-0.975,2.5) 12(0.975,1.5) 13(-0.975,0.5) 14(0.975,-0.5) 15(-0.975,-1.5) 16(0.975,-2.5) 17(-0.975,-3.5) 18(0.975,-4.5) 19(-0.975,-5.5) 20(0.975,-6.5) 21(-0.975,-7.5) 22(0.975,-8.5) 23(-0.975,-9.5) 24(0.975,-10.5) 25(-0.975,-11.5) 26(0.975,-12.5)
F.SilkS:
  lines w0.12: -1.89,13.01 -0.81,13.01 -0.81,13.31 0.81,13.31 0.81,12.01 ; -0.81,-12.01 -0.81,-13.31 0.81,-13.31 0.81,-13.01 ; -0.81,-10.99 -0.81,-10.01 ; -0.81,-8.99 -0.81,-8.01 ; -0.81,-6.99 -0.81,-6.01 ; -0.81,-4.99 -0.81,-4.01 ; -0.81,-2.99 -0.81,-2.01 ; -0.81,-0.99 -0.81,-0.01 ; -0.81,1.01 -0.81,1.99 ; -0.81,3.01 -0.81,3.99 ; -0.81,5.01 -0.81,5.99 ; -0.81,7.01 -0.81,7.99 ; -0.81,9.01 -0.81,9.99 ; -0.81,11.01 -0.81,11.99 ; 0.81,-11.99 0.81,-11.01 ; 0.81,-9.99 0.81,-9.01 ; 0.81,-7.99 0.81,-7.01 ; 0.81,-5.99 0.81,-5.01 ; 0.81,-3.99 0.81,-3.01 ; 0.81,-1.99 0.81,-1.01 ; 0.81,0.01 0.81,0.99 ; 0.81,2.01 0.81,2.99 ; 0.81,4.01 0.81,4.99 ; 0.81,6.01 0.81,6.99 ; 0.81,8.01 0.81,8.99 ; 0.81,10.01 0.81,10.99
F.CrtYd:
  lines w0.05: -2.45,-13.75 -2.45,13.75 2.45,13.75 2.45,-13.75 -2.45,-13.75
F.Fab:
  lines w0.1: -0.75,-11.65 -1.45,-11.65 -1.45,-11.35 -0.75,-11.35 ; -0.75,-9.65 -1.45,-9.65 -1.45,-9.35 -0.75,-9.35 ; -0.75,-7.65 -1.45,-7.65 -1.45,-7.35 -0.75,-7.35 ; -0.75,-5.65 -1.45,-5.65 -1.45,-5.35 -0.75,-5.35 ; -0.75,-3.65 -1.45,-3.65 -1.45,-3.35 -0.75,-3.35 ; -0.75,-1.65 -1.45,-1.65 -1.45,-1.35 -0.75,-1.35 ; -0.75,0.35 -1.45,0.35 -1.45,0.65 -0.75,0.65 ; -0.75,2.35 -1.45,2.35 -1.45,2.65 -0.75,2.65 ; -0.75,4.35 -1.45,4.35 -1.45,4.65 -0.75,4.65 ; -0.75,6.35 -1.45,6.35 -1.45,6.65 -0.75,6.65 ; -0.75,8.35 -1.45,8.35 -1.45,8.65 -0.75,8.65 ; -0.75,10.35 -1.45,10.35 -1.45,10.65 -0.75,10.65 ; -0.75,12.35 -1.45,12.35 -1.45,12.65 -0.75,12.65 ; 0.75,-12.65 1.45,-12.65 1.45,-12.35 0.75,-12.35 ; 0.75,-10.65 1.45,-10.65 1.45,-10.35 0.75,-10.35 ; 0.75,-8.65 1.45,-8.65 1.45,-8.35 0.75,-8.35 ; 0.75,-6.65 1.45,-6.65 1.45,-6.35 0.75,-6.35 ; 0.75,-4.65 1.45,-4.65 1.45,-4.35 0.75,-4.35 ; 0.75,-2.65 1.45,-2.65 1.45,-2.35 0.75,-2.35 ; 0.75,-0.65 1.45,-0.65 1.45,-0.35 0.75,-0.35 ; 0.75,1.35 1.45,1.35 1.45,1.65 0.75,1.65 ; 0.75,3.35 1.45,3.35 1.45,3.65 0.75,3.65 ; 0.75,5.35 1.45,5.35 1.45,5.65 0.75,5.65 ; 0.75,7.35 1.45,7.35 1.45,7.65 0.75,7.65 ; 0.75,9.35 1.45,9.35 1.45,9.65 0.75,9.65 ; 0.75,11.35 1.45,11.35 1.45,11.65 0.75,11.65 ; -0.75,-13.25 -0.75,12.875 -0.375,13.25 0.75,13.25 0.75,-13.25 -0.75,-13.25
  text "'.Designator'" at 0.761,-3.647 h0.9

## PinSocket_1x26_P1.00mm_Vertical_SMD_Pin1Right [mm]
pads (26):
  rect 1.95x0.5 smd: 1(0.975,12.5) 2(-0.975,11.5) 3(0.975,10.5) 4(-0.975,9.5) 5(0.975,8.5) 6(-0.975,7.5) 7(0.975,6.5) 8(-0.975,5.5) 9(0.975,4.5) 10(-0.975,3.5) 11(0.975,2.5) 12(-0.975,1.5) 13(0.975,0.5) 14(-0.975,-0.5) 15(0.975,-1.5) 16(-0.975,-2.5) 17(0.975,-3.5) 18(-0.975,-4.5) 19(0.975,-5.5) 20(-0.975,-6.5) 21(0.975,-7.5) 22(-0.975,-8.5) 23(0.975,-9.5) 24(-0.975,-10.5) 25(0.975,-11.5) 26(-0.975,-12.5)
F.SilkS:
  lines w0.12: -0.81,-13.01 -0.81,-13.31 0.81,-13.31 0.81,-12.01 ; -0.81,-11.99 -0.81,-11.01 ; -0.81,-9.99 -0.81,-9.01 ; -0.81,-7.99 -0.81,-7.01 ; -0.81,-5.99 -0.81,-5.01 ; -0.81,-3.99 -0.81,-3.01 ; -0.81,-1.99 -0.81,-1.01 ; -0.81,0.01 -0.81,0.99 ; -0.81,2.01 -0.81,2.99 ; -0.81,4.01 -0.81,4.99 ; -0.81,6.01 -0.81,6.99 ; -0.81,8.01 -0.81,8.99 ; -0.81,10.01 -0.81,10.99 ; -0.81,12.01 -0.81,13.31 0.81,13.31 0.81,13.01 1.89,13.01 ; 0.81,-10.99 0.81,-10.01 ; 0.81,-8.99 0.81,-8.01 ; 0.81,-6.99 0.81,-6.01 ; 0.81,-4.99 0.81,-4.01 ; 0.81,-2.99 0.81,-2.01 ; 0.81,-0.99 0.81,-0.01 ; 0.81,1.01 0.81,1.99 ; 0.81,3.01 0.81,3.99 ; 0.81,5.01 0.81,5.99 ; 0.81,7.01 0.81,7.99 ; 0.81,9.01 0.81,9.99 ; 0.81,11.01 0.81,11.99
F.CrtYd:
  lines w0.05: -2.45,-13.75 -2.45,13.75 2.45,13.75 2.45,-13.75 -2.45,-13.75
F.Fab:
  lines w0.1: -0.75,-12.65 -1.45,-12.65 -1.45,-12.35 -0.75,-12.35 ; -0.75,-10.65 -1.45,-10.65 -1.45,-10.35 -0.75,-10.35 ; -0.75,-8.65 -1.45,-8.65 -1.45,-8.35 -0.75,-8.35 ; -0.75,-6.65 -1.45,-6.65 -1.45,-6.35 -0.75,-6.35 ; -0.75,-4.65 -1.45,-4.65 -1.45,-4.35 -0.75,-4.35 ; -0.75,-2.65 -1.45,-2.65 -1.45,-2.35 -0.75,-2.35 ; -0.75,-0.65 -1.45,-0.65 -1.45,-0.35 -0.75,-0.35 ; -0.75,1.35 -1.45,1.35 -1.45,1.65 -0.75,1.65 ; -0.75,3.35 -1.45,3.35 -1.45,3.65 -0.75,3.65 ; -0.75,5.35 -1.45,5.35 -1.45,5.65 -0.75,5.65 ; -0.75,7.35 -1.45,7.35 -1.45,7.65 -0.75,7.65 ; -0.75,9.35 -1.45,9.35 -1.45,9.65 -0.75,9.65 ; -0.75,11.35 -1.45,11.35 -1.45,11.65 -0.75,11.65 ; 0.75,-11.65 1.45,-11.65 1.45,-11.35 0.75,-11.35 ; 0.75,-9.65 1.45,-9.65 1.45,-9.35 0.75,-9.35 ; 0.75,-7.65 1.45,-7.65 1.45,-7.35 0.75,-7.35 ; 0.75,-5.65 1.45,-5.65 1.45,-5.35 0.75,-5.35 ; 0.75,-3.65 1.45,-3.65 1.45,-3.35 0.75,-3.35 ; 0.75,-1.65 1.45,-1.65 1.45,-1.35 0.75,-1.35 ; 0.75,0.35 1.45,0.35 1.45,0.65 0.75,0.65 ; 0.75,2.35 1.45,2.35 1.45,2.65 0.75,2.65 ; 0.75,4.35 1.45,4.35 1.45,4.65 0.75,4.65 ; 0.75,6.35 1.45,6.35 1.45,6.65 0.75,6.65 ; 0.75,8.35 1.45,8.35 1.45,8.65 0.75,8.65 ; 0.75,10.35 1.45,10.35 1.45,10.65 0.75,10.65 ; 0.75,12.35 1.45,12.35 1.45,12.65 0.75,12.65 ; -0.75,-13.25 -0.75,13.25 0.375,13.25 0.75,12.875 0.75,-13.25 -0.75,-13.25
  text "'.Designator'" at 0.761,-3.647 h0.9

## PinSocket_1x27_P1.00mm_Vertical [mm]
pads (27):
  rect 0.85x0.85 hole 0.5: 1(0,0)
  rrect100% 0.85x0.85 hole 0.5: 2(0,-1) 3(0,-2) 4(0,-3) 5(0,-4) 6(0,-5) 7(0,-6) 8(0,-7) 9(0,-8) 10(0,-9) 11(0,-10) 12(0,-11) 13(0,-12) 14(0,-13) 15(0,-14) 16(0,-15) 17(0,-16) 18(0,-17) 19(0,-18) 20(0,-19) 21(0,-20) 22(0,-21) 23(0,-22) 24(0,-23) 25(0,-24) 26(0,-25) 27(0,-26)
F.SilkS:
  lines w0.12: -0.685,-0.5 -1.1,-0.5 -1.1,-26.81 0.52,-26.81 0.52,-26.446 ; 0,0.81 0.685,0.81 0.685,0 ; 0.52,-25.554 0.52,-25.446 ; 0.52,-24.554 0.52,-24.446 ; 0.52,-23.554 0.52,-23.446 ; 0.52,-22.554 0.52,-22.446 ; 0.52,-21.554 0.52,-21.446 ; 0.52,-20.554 0.52,-20.446 ; 0.52,-19.554 0.52,-19.446 ; 0.52,-18.554 0.52,-18.446 ; 0.52,-17.554 0.52,-17.446 ; 0.52,-16.554 0.52,-16.446 ; 0.52,-15.554 0.52,-15.446 ; 0.52,-14.554 0.52,-14.446 ; 0.52,-13.554 0.52,-13.446 ; 0.52,-12.554 0.52,-12.446 ; 0.52,-11.554 0.52,-11.446 ; 0.52,-10.554 0.52,-10.446 ; 0.52,-9.554 0.52,-9.446 ; 0.52,-8.554 0.52,-8.446 ; 0.52,-7.554 0.52,-7.446 ; 0.52,-6.554 0.52,-6.446 ; 0.52,-5.554 0.52,-5.446 ; 0.52,-4.554 0.52,-4.446 ; 0.52,-3.554 0.52,-3.446 ; 0.52,-2.554 0.52,-2.446 ; 0.52,-1.554 0.52,-1.446
F.CrtYd:
  lines w0.05: -1.54,-27.25 0.96,-27.25 0.96,1.25 -1.54,1.25 -1.54,-27.25
F.Fab:
  lines w0.1: -1.04,-26.75 -1.04,0.75 0.085,0.75 0.46,0.375 0.46,-26.75 -1.04,-26.75
  text "'.Designator'" at 0.471,-16.647 h0.9

## PinSocket_1x27_P1.00mm_Vertical_SMD_Pin1Left [mm]
pads (27):
  rect 1.95x0.5 smd: 1(-0.975,13) 2(0.975,12) 3(-0.975,11) 4(0.975,10) 5(-0.975,9) 6(0.975,8) 7(-0.975,7) 8(0.975,6) 9(-0.975,5) 10(0.975,4) 11(-0.975,3) 12(0.975,2) 13(-0.975,1) 14(0.975,0) 15(-0.975,-1) 16(0.975,-2) 17(-0.975,-3) 18(0.975,-4) 19(-0.975,-5) 20(0.975,-6) 21(-0.975,-7) 22(0.975,-8) 23(-0.975,-9) 24(0.975,-10) 25(-0.975,-11) 26(0.975,-12) 27(-0.975,-13)
F.SilkS:
  lines w0.12: -1.89,13.51 -0.81,13.51 -0.81,13.81 0.81,13.81 0.81,12.51 ; -0.81,-13.51 -0.81,-13.81 0.81,-13.81 0.81,-12.51 ; -0.81,-12.49 -0.81,-11.51 ; -0.81,-10.49 -0.81,-9.51 ; -0.81,-8.49 -0.81,-7.51 ; -0.81,-6.49 -0.81,-5.51 ; -0.81,-4.49 -0.81,-3.51 ; -0.81,-2.49 -0.81,-1.51 ; -0.81,-0.49 -0.81,0.49 ; -0.81,1.51 -0.81,2.49 ; -0.81,3.51 -0.81,4.49 ; -0.81,5.51 -0.81,6.49 ; -0.81,7.51 -0.81,8.49 ; -0.81,9.51 -0.81,10.49 ; -0.81,11.51 -0.81,12.49 ; 0.81,-11.49 0.81,-10.51 ; 0.81,-9.49 0.81,-8.51 ; 0.81,-7.49 0.81,-6.51 ; 0.81,-5.49 0.81,-4.51 ; 0.81,-3.49 0.81,-2.51 ; 0.81,-1.49 0.81,-0.51 ; 0.81,0.51 0.81,1.49 ; 0.81,2.51 0.81,3.49 ; 0.81,4.51 0.81,5.49 ; 0.81,6.51 0.81,7.49 ; 0.81,8.51 0.81,9.49 ; 0.81,10.51 0.81,11.49
F.CrtYd:
  lines w0.05: -2.45,-14.25 2.45,-14.25 2.45,14.25 -2.45,14.25 -2.45,-14.25
F.Fab:
  lines w0.1: -0.75,-13.15 -1.45,-13.15 -1.45,-12.85 -0.75,-12.85 ; -0.75,-11.15 -1.45,-11.15 -1.45,-10.85 -0.75,-10.85 ; -0.75,-9.15 -1.45,-9.15 -1.45,-8.85 -0.75,-8.85 ; -0.75,-7.15 -1.45,-7.15 -1.45,-6.85 -0.75,-6.85 ; -0.75,-5.15 -1.45,-5.15 -1.45,-4.85 -0.75,-4.85 ; -0.75,-3.15 -1.45,-3.15 -1.45,-2.85 -0.75,-2.85 ; -0.75,-1.15 -1.45,-1.15 -1.45,-0.85 -0.75,-0.85 ; -0.75,0.85 -1.45,0.85 -1.45,1.15 -0.75,1.15 ; -0.75,2.85 -1.45,2.85 -1.45,3.15 -0.75,3.15 ; -0.75,4.85 -1.45,4.85 -1.45,5.15 -0.75,5.15 ; -0.75,6.85 -1.45,6.85 -1.45,7.15 -0.75,7.15 ; -0.75,8.85 -1.45,8.85 -1.45,9.15 -0.75,9.15 ; -0.75,10.85 -1.45,10.85 -1.45,11.15 -0.75,11.15 ; -0.75,12.85 -1.45,12.85 -1.45,13.15 -0.75,13.15 ; 0.75,-12.15 1.45,-12.15 1.45,-11.85 0.75,-11.85 ; 0.75,-10.15 1.45,-10.15 1.45,-9.85 0.75,-9.85 ; 0.75,-8.15 1.45,-8.15 1.45,-7.85 0.75,-7.85 ; 0.75,-6.15 1.45,-6.15 1.45,-5.85 0.75,-5.85 ; 0.75,-4.15 1.45,-4.15 1.45,-3.85 0.75,-3.85 ; 0.75,-2.15 1.45,-2.15 1.45,-1.85 0.75,-1.85 ; 0.75,-0.15 1.45,-0.15 1.45,0.15 0.75,0.15 ; 0.75,1.85 1.45,1.85 1.45,2.15 0.75,2.15 ; 0.75,3.85 1.45,3.85 1.45,4.15 0.75,4.15 ; 0.75,5.85 1.45,5.85 1.45,6.15 0.75,6.15 ; 0.75,7.85 1.45,7.85 1.45,8.15 0.75,8.15 ; 0.75,9.85 1.45,9.85 1.45,10.15 0.75,10.15 ; 0.75,11.85 1.45,11.85 1.45,12.15 0.75,12.15 ; -0.75,-13.75 -0.75,13.375 -0.375,13.75 0.75,13.75 0.75,-13.75 -0.75,-13.75
  text "'.Designator'" at 0.761,-3.647 h0.9

## PinSocket_1x27_P1.00mm_Vertical_SMD_Pin1Right [mm]
pads (27):
  rect 1.95x0.5 smd: 1(0.975,13) 2(-0.975,12) 3(0.975,11) 4(-0.975,10) 5(0.975,9) 6(-0.975,8) 7(0.975,7) 8(-0.975,6) 9(0.975,5) 10(-0.975,4) 11(0.975,3) 12(-0.975,2) 13(0.975,1) 14(-0.975,0) 15(0.975,-1) 16(-0.975,-2) 17(0.975,-3) 18(-0.975,-4) 19(0.975,-5) 20(-0.975,-6) 21(0.975,-7) 22(-0.975,-8) 23(0.975,-9) 24(-0.975,-10) 25(0.975,-11) 26(-0.975,-12) 27(0.975,-13)
F.SilkS:
  lines w0.12: -0.81,-12.51 -0.81,-13.81 0.81,-13.81 0.81,-13.51 ; -0.81,-11.49 -0.81,-10.51 ; -0.81,-9.49 -0.81,-8.51 ; -0.81,-7.49 -0.81,-6.51 ; -0.81,-5.49 -0.81,-4.51 ; -0.81,-3.49 -0.81,-2.51 ; -0.81,-1.49 -0.81,-0.51 ; -0.81,0.51 -0.81,1.49 ; -0.81,2.51 -0.81,3.49 ; -0.81,4.51 -0.81,5.49 ; -0.81,6.51 -0.81,7.49 ; -0.81,8.51 -0.81,9.49 ; -0.81,10.51 -0.81,11.49 ; -0.81,12.51 -0.81,13.81 0.81,13.81 0.81,13.51 1.89,13.51 ; 0.81,-12.49 0.81,-11.51 ; 0.81,-10.49 0.81,-9.51 ; 0.81,-8.49 0.81,-7.51 ; 0.81,-6.49 0.81,-5.51 ; 0.81,-4.49 0.81,-3.51 ; 0.81,-2.49 0.81,-1.51 ; 0.81,-0.49 0.81,0.49 ; 0.81,1.51 0.81,2.49 ; 0.81,3.51 0.81,4.49 ; 0.81,5.51 0.81,6.49 ; 0.81,7.51 0.81,8.49 ; 0.81,9.51 0.81,10.49 ; 0.81,11.51 0.81,12.49
F.CrtYd:
  lines w0.05: -2.45,-14.25 2.45,-14.25 2.45,14.25 -2.45,14.25 -2.45,-14.25
F.Fab:
  lines w0.1: -0.75,-12.15 -1.45,-12.15 -1.45,-11.85 -0.75,-11.85 ; -0.75,-10.15 -1.45,-10.15 -1.45,-9.85 -0.75,-9.85 ; -0.75,-8.15 -1.45,-8.15 -1.45,-7.85 -0.75,-7.85 ; -0.75,-6.15 -1.45,-6.15 -1.45,-5.85 -0.75,-5.85 ; -0.75,-4.15 -1.45,-4.15 -1.45,-3.85 -0.75,-3.85 ; -0.75,-2.15 -1.45,-2.15 -1.45,-1.85 -0.75,-1.85 ; -0.75,-0.15 -1.45,-0.15 -1.45,0.15 -0.75,0.15 ; -0.75,1.85 -1.45,1.85 -1.45,2.15 -0.75,2.15 ; -0.75,3.85 -1.45,3.85 -1.45,4.15 -0.75,4.15 ; -0.75,5.85 -1.45,5.85 -1.45,6.15 -0.75,6.15 ; -0.75,7.85 -1.45,7.85 -1.45,8.15 -0.75,8.15 ; -0.75,9.85 -1.45,9.85 -1.45,10.15 -0.75,10.15 ; -0.75,11.85 -1.45,11.85 -1.45,12.15 -0.75,12.15 ; 0.75,-13.15 1.45,-13.15 1.45,-12.85 0.75,-12.85 ; 0.75,-11.15 1.45,-11.15 1.45,-10.85 0.75,-10.85 ; 0.75,-9.15 1.45,-9.15 1.45,-8.85 0.75,-8.85 ; 0.75,-7.15 1.45,-7.15 1.45,-6.85 0.75,-6.85 ; 0.75,-5.15 1.45,-5.15 1.45,-4.85 0.75,-4.85 ; 0.75,-3.15 1.45,-3.15 1.45,-2.85 0.75,-2.85 ; 0.75,-1.15 1.45,-1.15 1.45,-0.85 0.75,-0.85 ; 0.75,0.85 1.45,0.85 1.45,1.15 0.75,1.15 ; 0.75,2.85 1.45,2.85 1.45,3.15 0.75,3.15 ; 0.75,4.85 1.45,4.85 1.45,5.15 0.75,5.15 ; 0.75,6.85 1.45,6.85 1.45,7.15 0.75,7.15 ; 0.75,8.85 1.45,8.85 1.45,9.15 0.75,9.15 ; 0.75,10.85 1.45,10.85 1.45,11.15 0.75,11.15 ; 0.75,12.85 1.45,12.85 1.45,13.15 0.75,13.15 ; -0.75,-13.75 -0.75,13.75 0.375,13.75 0.75,13.375 0.75,-13.75 -0.75,-13.75
  text "'.Designator'" at 0.761,-3.647 h0.9

## PinSocket_1x28_P1.00mm_Vertical [mm]
pads (28):
  rect 0.85x0.85 hole 0.5: 1(0,0)
  rrect100% 0.85x0.85 hole 0.5: 2(0,-1) 3(0,-2) 4(0,-3) 5(0,-4) 6(0,-5) 7(0,-6) 8(0,-7) 9(0,-8) 10(0,-9) 11(0,-10) 12(0,-11) 13(0,-12) 14(0,-13) 15(0,-14) 16(0,-15) 17(0,-16) 18(0,-17) 19(0,-18) 20(0,-19) 21(0,-20) 22(0,-21) 23(0,-22) 24(0,-23) 25(0,-24) 26(0,-25) 27(0,-26) 28(0,-27)
F.SilkS:
  lines w0.12: -0.685,-0.5 -1.1,-0.5 -1.1,-27.81 0.52,-27.81 0.52,-27.446 ; 0,0.81 0.685,0.81 0.685,0 ; 0.52,-26.554 0.52,-26.446 ; 0.52,-25.554 0.52,-25.446 ; 0.52,-24.554 0.52,-24.446 ; 0.52,-23.554 0.52,-23.446 ; 0.52,-22.554 0.52,-22.446 ; 0.52,-21.554 0.52,-21.446 ; 0.52,-20.554 0.52,-20.446 ; 0.52,-19.554 0.52,-19.446 ; 0.52,-18.554 0.52,-18.446 ; 0.52,-17.554 0.52,-17.446 ; 0.52,-16.554 0.52,-16.446 ; 0.52,-15.554 0.52,-15.446 ; 0.52,-14.554 0.52,-14.446 ; 0.52,-13.554 0.52,-13.446 ; 0.52,-12.554 0.52,-12.446 ; 0.52,-11.554 0.52,-11.446 ; 0.52,-10.554 0.52,-10.446 ; 0.52,-9.554 0.52,-9.446 ; 0.52,-8.554 0.52,-8.446 ; 0.52,-7.554 0.52,-7.446 ; 0.52,-6.554 0.52,-6.446 ; 0.52,-5.554 0.52,-5.446 ; 0.52,-4.554 0.52,-4.446 ; 0.52,-3.554 0.52,-3.446 ; 0.52,-2.554 0.52,-2.446 ; 0.52,-1.554 0.52,-1.446
F.CrtYd:
  lines w0.05: -1.54,-28.25 -1.54,1.25 0.96,1.25 0.96,-28.25 -1.54,-28.25
F.Fab:
  lines w0.1: -1.04,-27.75 -1.04,0.75 0.085,0.75 0.46,0.375 0.46,-27.75 -1.04,-27.75
  text "'.Designator'" at 0.471,-17.147 h0.9

## PinSocket_1x28_P1.00mm_Vertical_SMD_Pin1Left [mm]
pads (28):
  rect 1.95x0.5 smd: 1(-0.975,13.5) 2(0.975,12.5) 3(-0.975,11.5) 4(0.975,10.5) 5(-0.975,9.5) 6(0.975,8.5) 7(-0.975,7.5) 8(0.975,6.5) 9(-0.975,5.5) 10(0.975,4.5) 11(-0.975,3.5) 12(0.975,2.5) 13(-0.975,1.5) 14(0.975,0.5) 15(-0.975,-0.5) 16(0.975,-1.5) 17(-0.975,-2.5) 18(0.975,-3.5) 19(-0.975,-4.5) 20(0.975,-5.5) 21(-0.975,-6.5) 22(0.975,-7.5) 23(-0.975,-8.5) 24(0.975,-9.5) 25(-0.975,-10.5) 26(0.975,-11.5) 27(-0.975,-12.5) 28(0.975,-13.5)
F.SilkS:
  lines w0.12: -1.89,14.01 -0.81,14.01 -0.81,14.31 0.81,14.31 0.81,13.01 ; -0.81,-13.01 -0.81,-14.31 0.81,-14.31 0.81,-14.01 ; -0.81,-11.99 -0.81,-11.01 ; -0.81,-9.99 -0.81,-9.01 ; -0.81,-7.99 -0.81,-7.01 ; -0.81,-5.99 -0.81,-5.01 ; -0.81,-3.99 -0.81,-3.01 ; -0.81,-1.99 -0.81,-1.01 ; -0.81,0.01 -0.81,0.99 ; -0.81,2.01 -0.81,2.99 ; -0.81,4.01 -0.81,4.99 ; -0.81,6.01 -0.81,6.99 ; -0.81,8.01 -0.81,8.99 ; -0.81,10.01 -0.81,10.99 ; -0.81,12.01 -0.81,12.99 ; 0.81,-12.99 0.81,-12.01 ; 0.81,-10.99 0.81,-10.01 ; 0.81,-8.99 0.81,-8.01 ; 0.81,-6.99 0.81,-6.01 ; 0.81,-4.99 0.81,-4.01 ; 0.81,-2.99 0.81,-2.01 ; 0.81,-0.99 0.81,-0.01 ; 0.81,1.01 0.81,1.99 ; 0.81,3.01 0.81,3.99 ; 0.81,5.01 0.81,5.99 ; 0.81,7.01 0.81,7.99 ; 0.81,9.01 0.81,9.99 ; 0.81,11.01 0.81,11.99
F.CrtYd:
  lines w0.05: -2.45,-14.75 -2.45,14.75 2.45,14.75 2.45,-14.75 -2.45,-14.75
F.Fab:
  lines w0.1: -0.75,-12.65 -1.45,-12.65 -1.45,-12.35 -0.75,-12.35 ; -0.75,-10.65 -1.45,-10.65 -1.45,-10.35 -0.75,-10.35 ; -0.75,-8.65 -1.45,-8.65 -1.45,-8.35 -0.75,-8.35 ; -0.75,-6.65 -1.45,-6.65 -1.45,-6.35 -0.75,-6.35 ; -0.75,-4.65 -1.45,-4.65 -1.45,-4.35 -0.75,-4.35 ; -0.75,-2.65 -1.45,-2.65 -1.45,-2.35 -0.75,-2.35 ; -0.75,-0.65 -1.45,-0.65 -1.45,-0.35 -0.75,-0.35 ; -0.75,1.35 -1.45,1.35 -1.45,1.65 -0.75,1.65 ; -0.75,3.35 -1.45,3.35 -1.45,3.65 -0.75,3.65 ; -0.75,5.35 -1.45,5.35 -1.45,5.65 -0.75,5.65 ; -0.75,7.35 -1.45,7.35 -1.45,7.65 -0.75,7.65 ; -0.75,9.35 -1.45,9.35 -1.45,9.65 -0.75,9.65 ; -0.75,11.35 -1.45,11.35 -1.45,11.65 -0.75,11.65 ; -0.75,13.35 -1.45,13.35 -1.45,13.65 -0.75,13.65 ; 0.75,-13.65 1.45,-13.65 1.45,-13.35 0.75,-13.35 ; 0.75,-11.65 1.45,-11.65 1.45,-11.35 0.75,-11.35 ; 0.75,-9.65 1.45,-9.65 1.45,-9.35 0.75,-9.35 ; 0.75,-7.65 1.45,-7.65 1.45,-7.35 0.75,-7.35 ; 0.75,-5.65 1.45,-5.65 1.45,-5.35 0.75,-5.35 ; 0.75,-3.65 1.45,-3.65 1.45,-3.35 0.75,-3.35 ; 0.75,-1.65 1.45,-1.65 1.45,-1.35 0.75,-1.35 ; 0.75,0.35 1.45,0.35 1.45,0.65 0.75,0.65 ; 0.75,2.35 1.45,2.35 1.45,2.65 0.75,2.65 ; 0.75,4.35 1.45,4.35 1.45,4.65 0.75,4.65 ; 0.75,6.35 1.45,6.35 1.45,6.65 0.75,6.65 ; 0.75,8.35 1.45,8.35 1.45,8.65 0.75,8.65 ; 0.75,10.35 1.45,10.35 1.45,10.65 0.75,10.65 ; 0.75,12.35 1.45,12.35 1.45,12.65 0.75,12.65 ; -0.75,-14.25 0.75,-14.25 0.75,14.25 -0.375,14.25 -0.75,13.875 -0.75,-14.25
  text "'.Designator'" at 0.761,-3.647 h0.9